# Altium footprint library ir.PCBLIB: 13 footprints
Each footprint in its own frame and in the unit in brackets; x right, y up, seen from the top. Pads: shape width x height; smd on the part's side, far side on the other; paste and mask are expansions set on the pad; w line width, h text height; cw(c..) or ccw(c..) is an arc to the next point about the centre after c.
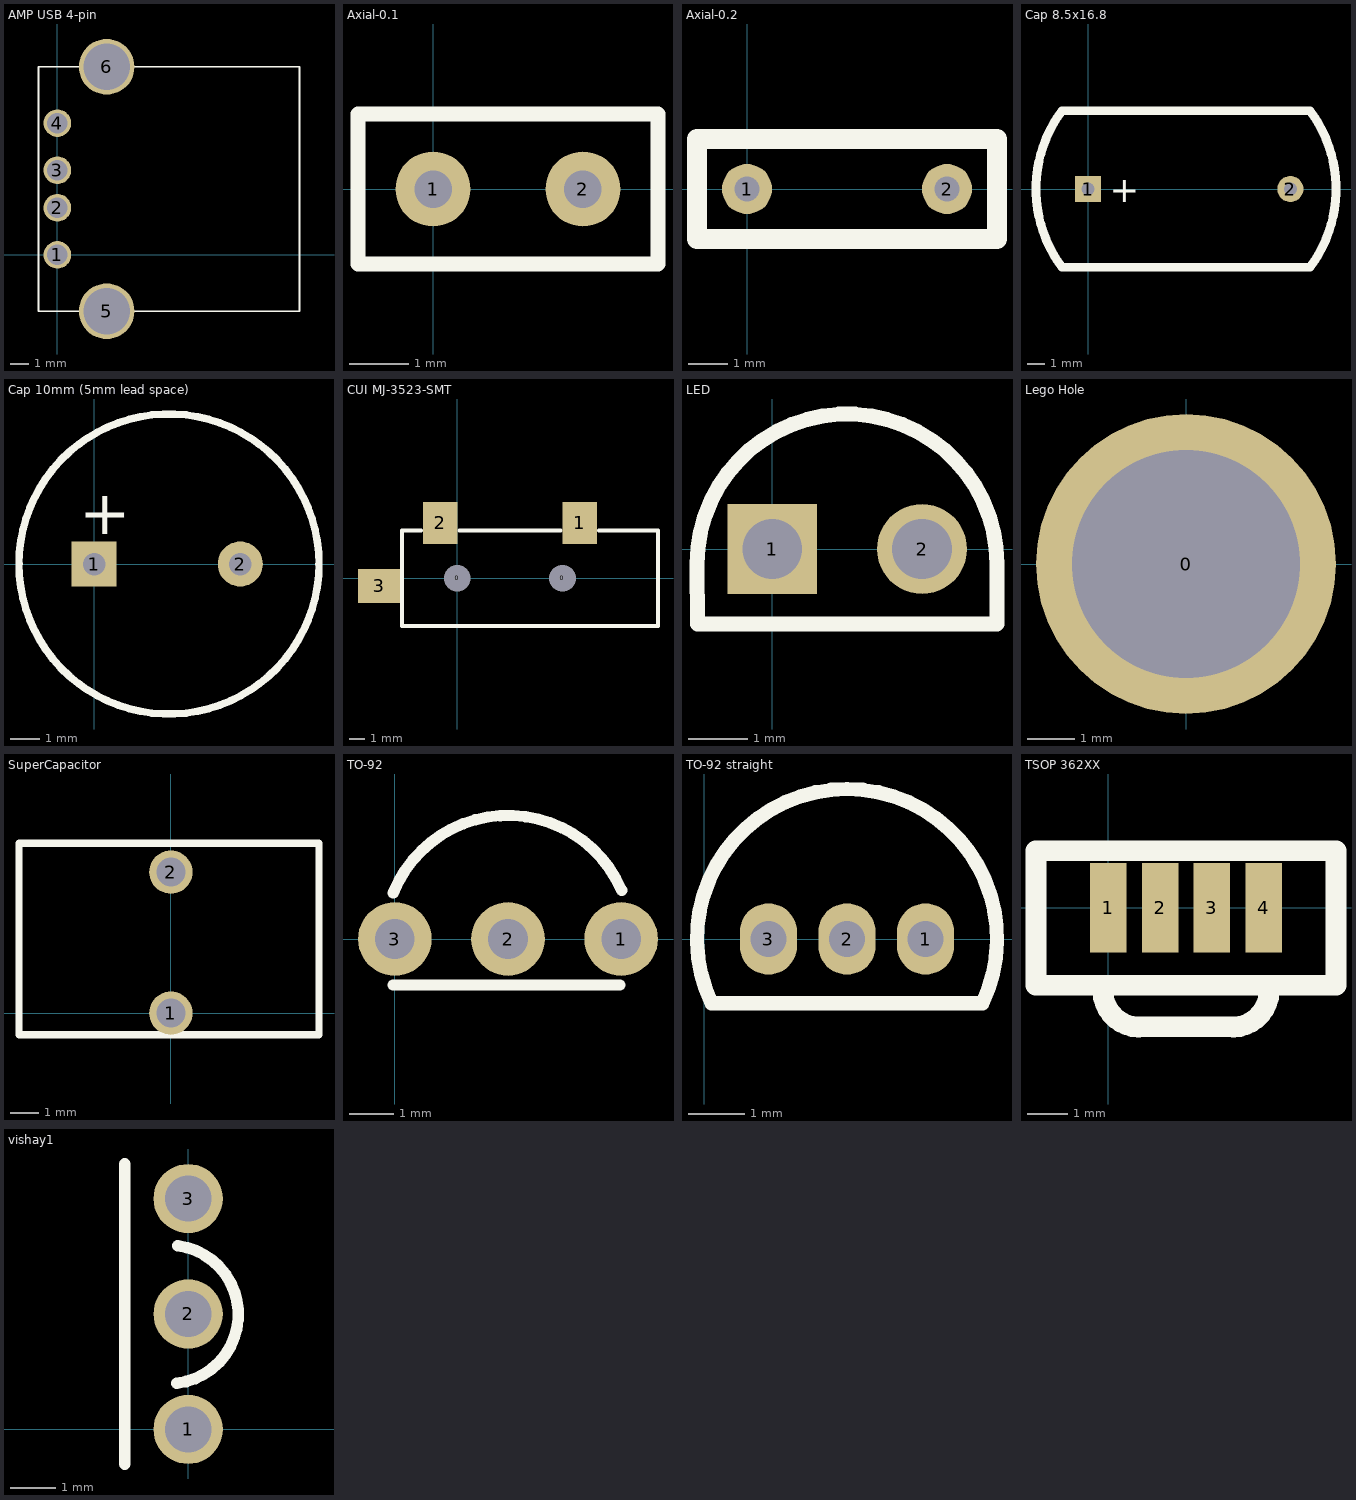
[diagram p0: the footprints below, top view; thin cyan lines are the x and y axes]

## AMP USB 4-pin [mm] "Standard USB through-hole connector"
pads (6):
  round 1.5 hole 1.1: 1(0,0) 2(0,2.54) 3(0,4.572) 4(0,7.112)
  round 3 hole 2.5: 5(2.667,-3.048) 6(2.667,10.16)
Top Overlay:
  lines w0.102: -1.016,-3.048 -1.016,10.16 13.081,10.16 13.081,-3.048 -1.016,-3.048

## Axial-0.1 [mil] "0.1\" spaced, 2 lead part"
pads (2):
  round 50 hole 25: 1(0,0) 2(100,0)
Top Overlay:
  lines w10: -50,-50 -50,50 150,50 150,-50 -50,-50

## Axial-0.2 [mil] "0.2\" spaced, 2 lead part"
pads (2):
  round 50 hole 25: 1(0,0) 2(200,0)
Top Overlay:
  lines w20: -50,-50 250,-50 250,0 250,50 -50,50 -50,-50

## Cap 8.5x16.8 [mil] "Cooper/Bussmann aerogel cap 8.5mm x16.8mm"
pads (2):
  rect 60x60 hole 30: 1(0,0)
  round 60 hole 30: 2(465,0)
Top Overlay:
  lines w20: -60,-180 cw(c180,0) -60,180 510,180 cw(c270,0) 510,-180 -60,-180
  text "+" at 50,-30 h60

## Cap 10mm (5mm lead space) [mil] "Radial capacitor, 10mm case diameter, 5mm lead spacing"
pads (2):
  rect 60x60 hole 30: 1(0,0)
  round 60 hole 30: 2(195,0)
Top Overlay:
  circle w10: c100,0 r200
  text "+" at -20,40 h60

## CUI MJ-3523-SMT [mil] "CUI 3.5mm phono jack, surface mount"
pads (5):
  round 20 hole 70 unplated: 0(0,0) 0(275,0)
  rect 90x110 smd: 1(320,145) 2(-45,145)
  rect 110x90 smd: 3(-205,-20)
Top Overlay:
  lines w10: -95,125 -145,125 -145,-125 525,-125 525,125 370,125 ; 5,125 270,125

## LED [mil] "2-pin LED footprint"
pads (2):
  rect 60x60 hole 40: 1(0,0)
  round 60 hole 40: 2(100,0)
Top Overlay:
  lines w10: -50.25,-10 cw(c49.88,-10) 150,-10 150,-50 -50,-50 -50.25,-10

## Lego Hole [mil] "3/16\" Lego hole"
pads (1):
  round 250 hole 190: 0(0,0)

## SuperCapacitor [mil] "double layer electric cap"
height 472.44
pads (2):
  round 60 hole 40: 1(0,0) 2(0,195)
Top Overlay:
  lines w10: -210,-30 -210,235 205,235 205,-30 -210,-30

## TO-92 [mil] "standard transistor package, spread leads"
pads (3):
  round 65 hole 35: 1(200,0) 2(100,0) 3(0,0)
Top Overlay:
  lines w10: -1.39,-40.56 198.59,-40.56 ; -1.39,40.56 cw(c100,0) 200.37,43.02

## TO-92 straight [mil] "standard transistor package, straight leads"
pads (3):
  oval 40x50 hole 25: 1(155,0) 2(100,0) 3(45,0)
Top Overlay:
  lines w10: 5.11,-44.95 cw(c100,0) 194.89,-44.95 5.11,-44.95

## TSOP 362XX [mm] "SMT IR receiver module"
pads (4):
  rect 0.9x2.2 smd: 1(0,0) 2(1.27,0) 3(2.54,0) 4(3.81,0)
Top Overlay:
  lines w0.508: -0.127,-1.905 ccw(c0.762,-2.032) 0.889,-2.921 ; 0.635,-2.921 3.175,-2.921 ; 2.921,-2.921 ccw(c3.048,-2.032) 3.937,-1.905 ; -1.778,-1.905 5.588,-1.905 5.588,1.397 -1.778,1.397 -1.778,-1.905

## vishay1 [mil] "small IR receiver"
pads (3):
  round 60 hole 40: 1(0,0) 2(0,100) 3(0,200)
Top Overlay:
  lines w10: -55,-30 -55,230 ; -10,40 ccw(c-16.63,99.63) -9.18,159.17